# EAGLE library part HC-12_FOOTPRINT (library hc12_433mhz)
HC-12 433MHz module footprint MCHFIX is for mechanical fix pin which is NC but on this file connected to GND https://github.com/meendiz/hc-12_si4463/
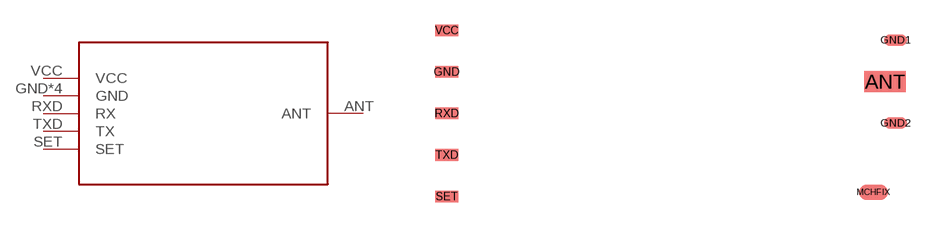
[diagram p0: symbol with the pads of HC-12_FOOTPRINT; footprint HC-12_FOOTPRINT]

Designator prefix -

## HC-12_FOOTPRINT  [HC-12_FOOTPRINT]
ANT  ANT
GND  GND
GND1  GND
GND2  GND
MCHFIX  GND
RXD  RX
SET  SET
TXD  TX
VCC  VCC

## Footprint HC-12_FOOTPRINT (pad centres in mm)
smd 2.54 x 1.27: ANT 25.49,7.03
smd 1.422 x 0.711: GND -1.27,7.62; GND1 26.13,9.57; GND2 26.13,4.49; RXD -1.27,5.08; SET -1.27,0; TXD -1.27,2.54; VCC -1.27,10.16
smd 1.778 x 0.914: MCHFIX 24.78,0.25